# EAGLE library part VNH2-3SP30 (library TABOR K1)
Motor driver VNH2-3SP30
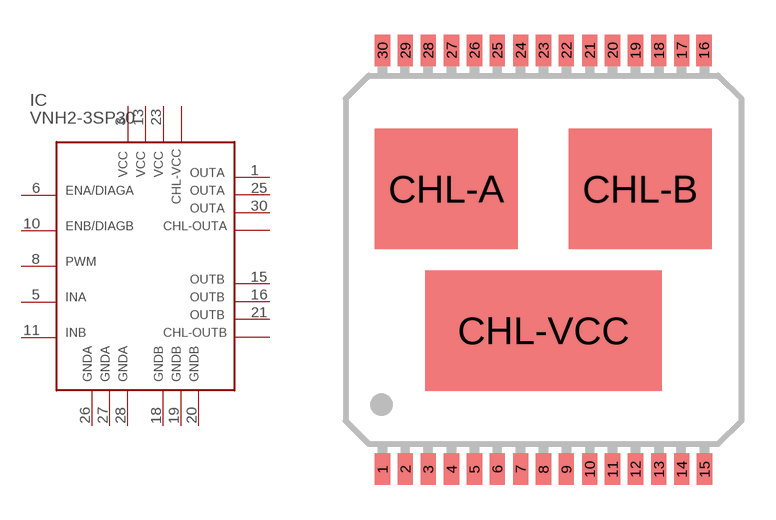
[diagram p41: symbol with the pads of SO30; footprint SO30]

Designator prefix IC

## VNH2-3SP30CHL  [SO30]
1  OUTA
2  NC  nc
3  VCC  pwr
4  NC  nc
5  INA  in
6  ENA/DIAGA
7  NC  nc
8  PWM  in
9  NC  nc
10  ENB/DIAGB
11  INB  in
12  NC  nc
13  VCC  pwr
14  NC  nc
15  OUTB
16  OUTB
17  NC  nc
18  GNDB  pwr
19  GNDB  pwr
20  GNDB  pwr
21  OUTB
22  NC  nc
23  VCC  pwr
24  NC  nc
25  OUTA
26  GNDA  pwr
27  GNDA  pwr
28  GNDA  pwr
29  NC  nc
30  OUTA
CHL-A  OUTA
CHL-B  OUTB
CHL-VCC  VCC  pwr

## Footprint SO30 (pad centres in mm)
Puzdro MultiPower SO30 : cinova ploska = 0,38 mm
smd 0.66 x 1.372: 1 -6.985,-9.093; 2 -5.994,-9.093; 3 -5.004,-9.093; 4 -3.988,-9.093; 5 -2.997,-9.093; 6 -2.007,-9.093; 7 -0.991,-9.093; 8 0,-9.093; 9 0.991,-9.093; 10 2.007,-9.093; 11 2.997,-9.093; 12 3.988,-9.093; 13 5.004,-9.093; 14 5.994,-9.093; 15 6.985,-9.093; 16 6.96,9.093; 17 5.994,9.093; 18 5.004,9.093; 19 3.988,9.093; 20 2.997,9.093; 21 2.007,9.093; 22 0.991,9.093; 23 0,9.093; 24 -0.991,9.093; 25 -2.007,9.093; 26 -2.997,9.093; 27 -3.988,9.093; 28 -5.004,9.093; 29 -5.994,9.093; 30 -6.985,9.093
smd 6.198 x 5.232: CHL-A -4.216,3.073; CHL-B 4.191,3.073
smd 10.262 x 5.232: CHL-VCC 0,-3.073